# EAGLE library part BTS660P (library ic)
BTS660P: Highside high current power switch (Infineon) 70V Umax, 44A Imax, 9mOhm Ron
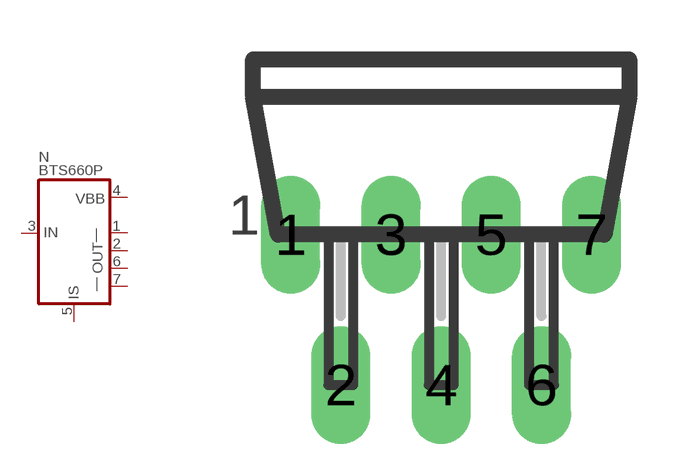
[diagram p44: symbol with the pads of TO220-7A2; footprint TO220-7A2]

Designator prefix N

## BTS660P  [TO220-7A2]
1  OUT
2  OUT
3  IN  in
4  VBB
5  IS  out
6  OUT
7  OUT

## Footprint TO220-7A2 (pad centres in mm)
TO-220, alternating pads Power package, 7 pins
drill 0.991 pad 1.397 long: 1 -3.81,1.27; 2 -2.54,-2.54; 3 -1.27,1.27; 4 0,-2.54; 5 1.27,1.27; 6 2.54,-2.54; 7 3.81,1.27